# Altium footprint library MyLib.PcbLib: 10 footprints
Each footprint in its own frame and in the unit in brackets; x right, y up, seen from the top. Pads: shape width x height; smd on the part's side, far side on the other; paste and mask are expansions set on the pad; w line width, h text height; cw(c..) or ccw(c..) is an arc to the next point about the centre after c.
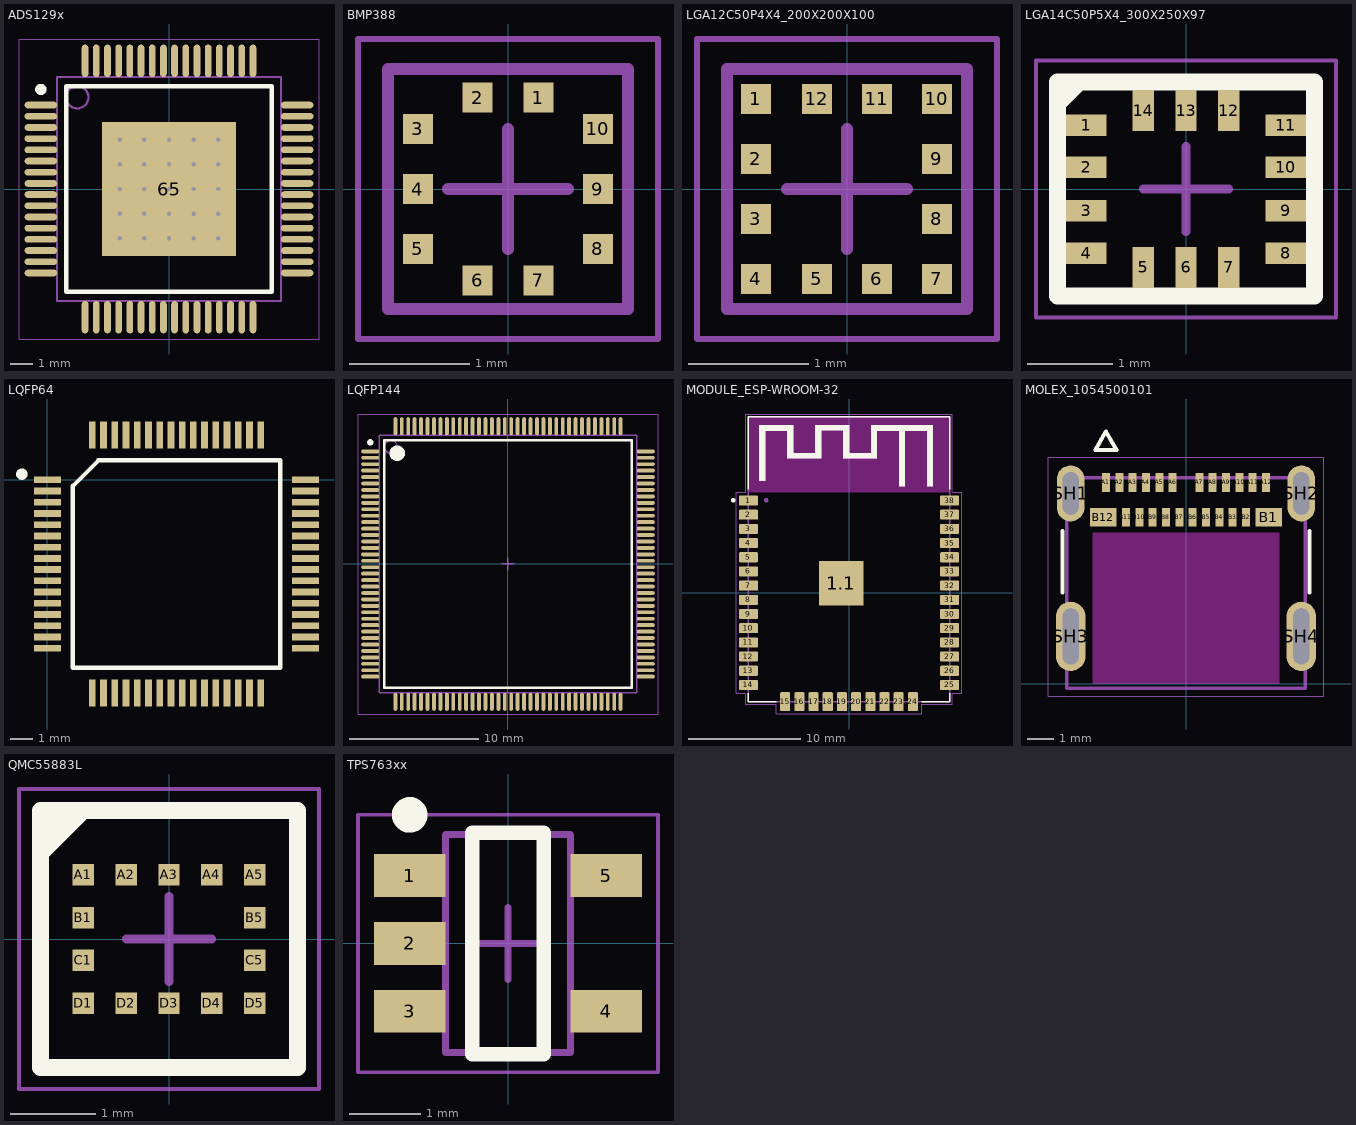
[diagram p0: the footprints below, top view; thin cyan lines are the x and y axes]

## ADS129x [mm] "TSQFP, 64-Leads, Body 10.00x10.00mm, Pitch 0.50mm, Thermal Pad 6.00x6.00mm, IPC Medium Density"
height 1.2
pads (65):
  oval 1.45x0.3 smd: 1(-5.725,3.75) 2(-5.725,3.25) 3(-5.725,2.75) 4(-5.725,2.25) 5(-5.725,1.75) 6(-5.725,1.25) 7(-5.725,0.75) 8(-5.725,0.25) 9(-5.725,-0.25) 10(-5.725,-0.75) 11(-5.725,-1.25) 12(-5.725,-1.75) 13(-5.725,-2.25) 14(-5.725,-2.75) 15(-5.725,-3.25) 16(-5.725,-3.75) 33(5.725,-3.75) 34(5.725,-3.25) 35(5.725,-2.75) 36(5.725,-2.25) 37(5.725,-1.75) 38(5.725,-1.25) 39(5.725,-0.75) 40(5.725,-0.25) 41(5.725,0.25) 42(5.725,0.75) 43(5.725,1.25) 44(5.725,1.75) 45(5.725,2.25) 46(5.725,2.75) 47(5.725,3.25) 48(5.725,3.75)
  oval 0.3x1.45 smd: 17(-3.75,-5.725) 18(-3.25,-5.725) 19(-2.75,-5.725) 20(-2.25,-5.725) 21(-1.75,-5.725) 22(-1.25,-5.725) 23(-0.75,-5.725) 24(-0.25,-5.725) 25(0.25,-5.725) 26(0.75,-5.725) 27(1.25,-5.725) 28(1.75,-5.725) 29(2.25,-5.725) 30(2.75,-5.725) 31(3.25,-5.725) 32(3.75,-5.725) 49(3.75,5.725) 50(3.25,5.725) 51(2.75,5.725) 52(2.25,5.725) 53(1.75,5.725) 54(1.25,5.725) 55(0.75,5.725) 56(0.25,5.725) 57(-0.25,5.725) 58(-0.75,5.725) 59(-1.25,5.725) 60(-1.75,5.725) 61(-2.25,5.725) 62(-2.75,5.725) 63(-3.25,5.725) 64(-3.75,5.725)
  rect 6x6 smd: 65(0,0)
via -2.2,2.2 diameter 0.5 hole 0.2
via -1.1,2.2 diameter 0.5 hole 0.2
via 0,2.2 diameter 0.5 hole 0.2
via 1.1,2.2 diameter 0.5 hole 0.2
via 2.2,2.2 diameter 0.5 hole 0.2
via -2.2,1.1 diameter 0.5 hole 0.2
via -1.1,1.1 diameter 0.5 hole 0.2
via 0,1.1 diameter 0.5 hole 0.2
via 1.1,1.1 diameter 0.5 hole 0.2
via 2.2,1.1 diameter 0.5 hole 0.2
via -2.2,0 diameter 0.5 hole 0.2
via -1.1,0 diameter 0.5 hole 0.2
via 0,0 diameter 0.5 hole 0.2
via 1.1,0 diameter 0.5 hole 0.2
via 2.2,0 diameter 0.5 hole 0.2
via -2.2,-1.1 diameter 0.5 hole 0.2
via -1.1,-1.1 diameter 0.5 hole 0.2
via 0,-1.1 diameter 0.5 hole 0.2
via 1.1,-1.1 diameter 0.5 hole 0.2
via 2.2,-1.1 diameter 0.5 hole 0.2
via -2.2,-2.2 diameter 0.5 hole 0.2
via -1.1,-2.2 diameter 0.5 hole 0.2
via 0,-2.2 diameter 0.5 hole 0.2
via 1.1,-2.2 diameter 0.5 hole 0.2
via 2.2,-2.2 diameter 0.5 hole 0.2
Top Overlay:
  circle w0.25: c-5.725,4.45 r0.125
  lines w0.2: -4.6,-4.6 -4.6,4.6 4.6,4.6 4.6,-4.6 -4.6,-4.6
Mechanical 13:
  circle w0.1: c-4.1,4.1 r0.5
  lines w0.1: -5,-5 -5,5 5,5 5,-5 -5,-5
Mechanical 15:
  lines w0.05: -6.7,-6.7 -6.7,6.7 6.7,6.7 6.7,-6.7 -6.7,-6.7
  lines w0.1: -0.5,0 0.5,0 ; 0,-0.5 0,0.5
3D body "ADS1298--3DModel-STEP-56544.STEP": height 1.16, standoff -0.04, extent -6,-6 6,6

## BMP388 [mm] "LGA, 10-Leads, Body 2.00x2.00mmx0.75mm, Pitch 0.50mm"
height 0.75
pads (10):
  rect 0.25x0.25 smd: 1(0.254,0.762) 2(-0.254,0.762) 3(-0.75,0.5) 4(-0.75,0) 5(-0.75,-0.5) 6(-0.254,-0.762) 7(0.254,-0.762) 8(0.75,-0.5) 9(0.75,0) 10(0.75,0.5)
Mechanical 13:
  lines w0.1: -1,-1 1,-1 1,1 -1,1 -1,-1
Mechanical 15:
  lines w0.05: -1.25,-1.25 -1.25,1.25 1.25,1.25 1.25,-1.25 -1.25,-1.25
  lines w0.1: -0.5,0 0.5,0 ; 0,-0.5 0,0.5
3D body "BMP388--3DModel-STEP-56544.STEP": height 0.81, standoff 0.01, extent -1,-1 1,1

## LGA12C50P4X4_200X200X100 [mm] "LGA, 12-Leads, Body 2.00x2.00mmx1.00mm, Pitch 0.50mm"
height 1
pads (12):
  rect 0.25x0.25 smd: 1(-0.76,0.75) 2(-0.76,0.25) 3(-0.76,-0.25) 4(-0.76,-0.75) 5(-0.25,-0.75) 6(0.25,-0.75) 7(0.75,-0.75) 8(0.75,-0.25) 9(0.75,0.25) 10(0.75,0.75) 11(0.25,0.75) 12(-0.25,0.75)
Mechanical 13:
  lines w0.1: -1,-1 -1,1 1,1 1,-1 -1,-1
Mechanical 15:
  lines w0.05: -1.25,-1.25 -1.25,1.25 1.25,1.25 1.25,-1.25 -1.25,-1.25
  lines w0.1: -0.5,0 0.5,0 ; 0,-0.5 0,0.5
3D body "LIS3MDLTR--3DModel-STEP-56544.STEP": height 1.01, standoff 0.01, extent -1,-1 1,1

## LGA14C50P5X4_300X250X97 [mm] "LGA, 14-Leads, Body 3.00x2.50mmx0.97mm, Pitch 0.50mm"
height 0.97
pads (14):
  rect 0.475x0.25 smd: 1(-1.163,0.742) 2(-1.163,0.254) 3(-1.163,-0.254) 4(-1.163,-0.752) 8(1.163,-0.752) 9(1.163,-0.254) 10(1.163,0.254) 11(1.163,0.742)
  rect 0.25x0.475 smd: 5(-0.5,-0.915) 6(0,-0.915) 7(0.5,-0.915) 12(0.5,0.915) 13(0,0.915) 14(-0.5,0.915)
Top Overlay:
  region: -1.242,1.25 -1.5,0.992 -1.5,1.25
  lines w0.2: -1.5,0.992 -1.242,1.25 ; -1.5,-1.25 1.5,-1.25 1.5,1.25 -1.5,1.25 -1.5,-1.25
Mechanical 13:
  lines w0.1: -1.5,-1.25 1.5,-1.25 1.5,1.25 -1.5,1.25 -1.5,-1.25
Mechanical 15:
  lines w0.05: -1.75,-1.5 1.75,-1.5 1.75,1.5 -1.75,1.5 -1.75,-1.5
  lines w0.1: -0.5,0 0.5,0 ; 0,-0.5 0,0.5
3D body "ICM-42688-P--3DModel-STEP-1.STEP": height 0.98, standoff 0.01, extent -1.5,-1.25 1.5,1.25

## LQFP64 [mm]
pads (64):
  rect 1.2x0.3 smd: 1(0,0) 2(0,-0.5) 3(0,-1) 4(0,-1.5) 5(0,-2) 6(0,-2.5) 7(0,-3) 8(0,-3.5) 9(0,-4) 10(0,-4.5) 11(0,-5) 12(0,-5.5) 13(0,-6) 14(0,-6.5) 15(0,-7) 16(0,-7.5) 33(11.5,-7.5) 34(11.5,-7) 35(11.5,-6.5) 36(11.5,-6) 37(11.5,-5.5) 38(11.5,-5) 39(11.5,-4.5) 40(11.5,-4) 41(11.5,-3.5) 42(11.5,-3) 43(11.5,-2.5) 44(11.5,-2) 45(11.5,-1.5) 46(11.5,-1) 47(11.5,-0.5) 48(11.5,0)
  rect 0.3x1.2 smd: 17(2,-9.5) 18(2.5,-9.5) 19(3,-9.5) 20(3.5,-9.5) 21(4,-9.5) 22(4.5,-9.5) 23(5,-9.5) 24(5.5,-9.5) 25(6,-9.5) 26(6.5,-9.5) 27(7,-9.5) 28(7.5,-9.5) 29(8,-9.5) 30(8.5,-9.5) 31(9,-9.5) 32(9.5,-9.5) 49(9.5,2) 50(9,2) 51(8.5,2) 52(8,2) 53(7.5,2) 54(7,2) 55(6.5,2) 56(6,2) 57(5.5,2) 58(5,2) 59(4.5,2) 60(4,2) 61(3.5,2) 62(3,2) 63(2.5,2) 64(2,2)
Top Overlay:
  circle w0.254: c-1.143,0.254 r0.127
  lines w0.2: 1.135,-8.365 1.135,-0.27 2.27,0.865 10.365,0.865 10.365,-8.365 1.135,-8.365
3D body "STM32F722RET6.STEP": height 1.46, standoff -0.14, extent -0.254,-9.75 11.746,2.25

## LQFP144 [mm] "LQFP, 144-Leads"
height 1.6
pads (144):
  oval 1.4x0.3 smd: 1(-10.7,8.75) 2(-10.7,8.25) 3(-10.7,7.75) 4(-10.7,7.25) 5(-10.7,6.75) 6(-10.7,6.25) 7(-10.7,5.75) 8(-10.7,5.25) 9(-10.7,4.75) 10(-10.7,4.25) 11(-10.7,3.75) 12(-10.7,3.25) 13(-10.7,2.75) 14(-10.7,2.25) 15(-10.7,1.75) 16(-10.7,1.25) 17(-10.7,0.75) 18(-10.7,0.25) 19(-10.7,-0.25) 20(-10.7,-0.75) 21(-10.7,-1.25) 22(-10.7,-1.75) 23(-10.7,-2.25) 24(-10.7,-2.75) 25(-10.7,-3.25) 26(-10.7,-3.75) 27(-10.7,-4.25) 28(-10.7,-4.75) 29(-10.7,-5.25) 30(-10.7,-5.75) 31(-10.7,-6.25) 32(-10.7,-6.75) 33(-10.7,-7.25) 34(-10.7,-7.75) 35(-10.7,-8.25) 36(-10.7,-8.75) 73(10.7,-8.75) 74(10.7,-8.25) 75(10.7,-7.75) 76(10.7,-7.25) 77(10.7,-6.75) 78(10.7,-6.25) 79(10.7,-5.75) 80(10.7,-5.25) 81(10.7,-4.75) 82(10.7,-4.25) 83(10.7,-3.75) 84(10.7,-3.25) 85(10.7,-2.75) 86(10.7,-2.25) 87(10.7,-1.75) 88(10.7,-1.25) 89(10.7,-0.75) 90(10.7,-0.25) 91(10.7,0.25) 92(10.7,0.75) 93(10.7,1.25) 94(10.7,1.75) 95(10.7,2.25) 96(10.7,2.75) 97(10.7,3.25) 98(10.7,3.75) 99(10.7,4.25) 100(10.7,4.75) 101(10.7,5.25) 102(10.7,5.75) 103(10.7,6.25) 104(10.7,6.75) 105(10.7,7.25) 106(10.7,7.75) 107(10.7,8.25) 108(10.7,8.75)
  oval 0.3x1.4 smd: 37(-8.75,-10.7) 38(-8.25,-10.7) 39(-7.75,-10.7) 40(-7.25,-10.7) 41(-6.75,-10.7) 42(-6.25,-10.7) 43(-5.75,-10.7) 44(-5.25,-10.7) 45(-4.75,-10.7) 46(-4.25,-10.7) 47(-3.75,-10.7) 48(-3.25,-10.7) 49(-2.75,-10.7) 50(-2.25,-10.7) 51(-1.75,-10.7) 52(-1.25,-10.7) 53(-0.75,-10.7) 54(-0.25,-10.7) 55(0.25,-10.7) 56(0.75,-10.7) 57(1.25,-10.7) 58(1.75,-10.7) 59(2.25,-10.7) 60(2.75,-10.7) 61(3.25,-10.7) 62(3.75,-10.7) 63(4.25,-10.7) 64(4.75,-10.7) 65(5.25,-10.7) 66(5.75,-10.7) 67(6.25,-10.7) 68(6.75,-10.7) 69(7.25,-10.7) 70(7.75,-10.7) 71(8.25,-10.7) 72(8.75,-10.7) 109(8.75,10.7) 110(8.25,10.7) 111(7.75,10.7) 112(7.25,10.7) 113(6.75,10.7) 114(6.25,10.7) 115(5.75,10.7) 116(5.25,10.7) 117(4.75,10.7) 118(4.25,10.7) 119(3.75,10.7) 120(3.25,10.7) 121(2.75,10.7) 122(2.25,10.7) 123(1.75,10.7) 124(1.25,10.7) 125(0.75,10.7) 126(0.25,10.7) 127(-0.25,10.7) 128(-0.75,10.7) 129(-1.25,10.7) 130(-1.75,10.7) 131(-2.25,10.7) 132(-2.75,10.7) 133(-3.25,10.7) 134(-3.75,10.7) 135(-4.25,10.7) 136(-4.75,10.7) 137(-5.25,10.7) 138(-5.75,10.7) 139(-6.25,10.7) 140(-6.75,10.7) 141(-7.25,10.7) 142(-7.75,10.7) 143(-8.25,10.7) 144(-8.75,10.7)
Top Overlay:
  circle w0.25: c-10.7,9.45 r0.125
  circle w0.6: c-8.6,8.6 r0.3
  lines w0.2: -9.6,-9.6 -9.6,9.6 9.6,9.6 9.6,-9.6 -9.6,-9.6
Mechanical 13:
  circle w0.1: c-9.1,9.1 r0.5
  lines w0.1: -10,-10 -10,10 10,10 10,-10 -10,-10
Mechanical 15:
  lines w0.05: -11.65,-11.65 -11.65,11.65 11.65,11.65 11.65,-11.65 -11.65,-11.65
  lines w0.1: -0.5,0 0.5,0 ; 0,-0.5 0,0.5
3D body "stm32f767zit6.SLDPRT": height 1.48, standoff 0, extent -11.005,-11.078 10.995,10.922

## MODULE_ESP-WROOM-32 [mm]
pads (39):
  rrect22% 1.7x0.9 smd: 1(-9,8.255) 2(-9,6.985) 3(-9,5.715) 4(-9,4.445) 5(-9,3.175) 6(-9,1.905) 7(-9,0.635) 8(-9,-0.635) 9(-9,-1.905) 10(-9,-3.175) 11(-9,-4.445) 12(-9,-5.715) 13(-9,-6.985) 14(-9,-8.255) 25(9,-8.255) 26(9,-6.985) 27(9,-5.715) 28(9,-4.445) 29(9,-3.175) 30(9,-1.905) 31(9,-0.635) 32(9,0.635) 33(9,1.905) 34(9,3.175) 35(9,4.445) 36(9,5.715) 37(9,6.985) 38(9,8.255)
  rect 4x4 smd: 1.1(-0.7,0.845)
  rrect22% 0.9x1.7 smd: 15(-5.715,-9.755) 16(-4.445,-9.755) 17(-3.175,-9.755) 18(-1.905,-9.755) 19(-0.635,-9.755) 20(0.635,-9.755) 21(1.905,-9.755) 22(3.175,-9.755) 23(4.445,-9.755) 24(5.715,-9.755)
Top Overlay:
  circle w0.2: c-10.365,8.275 r0.1
  region: -7.5,10.529 -8.022,10.529 -8.022,15 -7.5,15
  region: -5,14.516 -8.009,14.516 -8.009,15 -5,15
  region: -5,12.047 -5.522,12.047 -5.522,14.5 -5,14.5
  region: -2.5,12.018 -5.508,12.018 -5.508,12.5 -2.5,12.5
  region: -2.5,12.041 -3.01,12.041 -3.01,14.5 -2.5,14.5
  region: 0,14.549 -3.01,14.549 -3.01,15 0,15
  region: 0,12.049 -0.502,12.049 -0.502,14.5 0,14.5
  region: 2.5,12.05 -0.502,12.05 -0.502,12.5 2.5,12.5
  region: 2.5,12.053 2.009,12.053 2.009,14.5 2.5,14.5
  region: 7.5,14.514 2.012,14.514 2.012,15 7.5,15
  region: 7.5,10.03 7.021,10.03 7.021,15 7.5,15
  region: 5,10.031 4.514,10.031 4.514,15 5,15
  region: 7.5,9.526 7.019,9.526 7.019,10 7.5,10
  region: 5,9.517 4.508,9.517 4.508,10 5,10
  region: -7.5,10.025 -8.02,10.025 -8.02,10.5 -7.5,10.5
  region: 2.5,13.554 2.008,13.554 2.008,15 2.5,15
  lines w0.127: -9,-9 -9,-9.75 -6.5,-9.75 ; -9,9.25 -9,15.75 9,15.75 9,9.25 ; 6.5,-9.75 9,-9.75 9,-9
Keep-Out Layer:
  region: 9,9.012 -9.012,9.012 -9.012,15.75 9,15.75
  region: 9,9.026 -9.026,9.026 -9.026,15.75 9,15.75
Mechanical 13:
  circle w0.2: c-7.425,8.275 r0.1
  region: -7.5,10.55 -8.038,10.55 -8.038,15 -7.5,15
  region: -5,14.574 -8.041,14.574 -8.041,15 -5,15
  region: -5,12.04 -5.518,12.04 -5.518,14.5 -5,14.5
  region: -2.5,12.034 -5.516,12.034 -5.516,12.5 -2.5,12.5
  region: -2.5,12.041 -3.01,12.041 -3.01,14.5 -2.5,14.5
  region: 0,14.531 -3.006,14.531 -3.006,15 0,15
  region: 0,12.04 -0.502,12.04 -0.502,14.5 0,14.5
  region: 2.5,12.012 -0.501,12.012 -0.501,12.5 2.5,12.5
  region: 2.5,12.046 2.008,12.046 2.008,14.5 2.5,14.5
  region: 7.5,14.541 2.015,14.541 2.015,15 7.5,15
  region: 7.5,10.037 7.026,10.037 7.026,15 7.5,15
  region: 5,10.033 4.515,10.033 4.515,15 5,15
  region: 7.5,9.529 7.022,9.529 7.022,10 7.5,10
  region: 5,9.548 4.523,9.548 4.523,10 5,10
  region: -7.5,10.033 -8.027,10.033 -8.027,10.5 -7.5,10.5
  region: 2.5,13.551 2.008,13.551 2.008,15 2.5,15
  lines w0.127: -9,-9.755 9,-9.755 9,15.745 -9,15.745 -9,-9.755
Mechanical 15:
  lines w0.05: -10.1,-9 -9.25,-9 -9.25,-10 -6.5,-10 -6.5,-10.855 6.5,-10.855 6.5,-10 9.25,-10 9.25,-9 10.1,-9 10.1,9 9.25,9 9.25,16 -9.25,16 -9.25,9 -10.1,9 -10.1,-9
3D body "step_temp.STEP": height 3.25, standoff 0, extent -9,-9.75 9,15.75

## MOLEX_1054500101 [mm]
height 3.24
pads (28):
  rect 0.298x0.7 smd mask+0.064: A1(-3,7.54) A2(-2.5,7.54) A3(-2,7.54) A4(-1.5,7.54) A5(-1,7.54) A6(-0.5,7.54) A7(0.5,7.54) A8(1,7.54) A9(1.5,7.54) A10(2,7.54) A11(2.5,7.54) A12(3,7.54) B2(2.25,6.24) B3(1.75,6.24) B4(1.25,6.24) B5(0.75,6.24) B6(0.25,6.24) B7(-0.25,6.24) B8(-0.75,6.24) B9(-1.25,6.24) B10(-1.75,6.24) B11(-2.25,6.24)
  rect 0.998x0.7 smd mask+0.064: B1(3.1,6.24) B12(-3.1,6.24)
  oval 1.036x2.1 hole 0.6 slot 1.6 at 90 deg mask+0.064: SH1(-4.32,7.13) SH2(4.32,7.13)
  oval 1.1x2.6 hole 0.6 slot 2.1 at 90 deg mask+0.064: SH3(-4.32,1.77) SH4(4.32,1.77)
Top Overlay:
  lines w0.15: -4.62,3.42 -4.62,5.72 ; 4.62,3.42 4.62,5.72 ; -3.4,8.748 -3,9.448 -2.6,8.748 -3.4,8.748
Keep-Out Layer:
  region: 3.5,0 -3.5,0 -3.5,5.65 3.5,5.65
Mechanical 13:
  lines w0.13: -4.47,-0.18 -4.47,7.72 4.47,7.72 4.47,0 4.47,-0.18 -4.47,-0.18 ; -3.4,8.748 -3,9.448 -2.6,8.748 -3.4,8.748
Mechanical 15:
  lines w0.01: -5.17,-0.48 -5.17,8.48 5.17,8.48 5.17,-0.48 -5.17,-0.48

## QMC55883L [mm] "LGA, 16-Leads, Body 3.00x3.00mmx1.02mm, Pitch 0.50mm"
height 1.02
pads (14):
  rect 0.25x0.25 smd: A1(-1,0.75) A2(-0.5,0.75) A3(0,0.75) A4(0.5,0.75) A5(1,0.75) B1(-1,0.25) B5(1,0.25) C1(-1,-0.25) C5(1,-0.25) D1(-1,-0.75) D2(-0.5,-0.75) D3(0,-0.75) D4(0.5,-0.75) D5(1,-0.75)
Top Overlay:
  region: -1,1.5 -1.5,1 -1.5,1.5
  lines w0.2: -1.5,1 -1,1.5 ; -1.5,-1.5 -1.5,1.5 1.5,1.5 1.5,-1.5 -1.5,-1.5
Mechanical 13:
  lines w0.1: -1.5,-1.5 -1.5,1.5 1.5,1.5 1.5,-1.5 -1.5,-1.5
Mechanical 15:
  lines w0.05: -1.75,-1.75 -1.75,1.75 1.75,1.75 1.75,-1.75 -1.75,-1.75
  lines w0.1: -0.5,0 0.5,0 ; 0,-0.5 0,0.5
3D body: height 1.02, standoff 0.21, extent -1.5,-1.5 1.5,1.5

## TPS763xx [mm] "SOT23, 5-Leads, Body 2.90x2.80mm, Pitch 0.95mm, IPC Medium Density"
height 1.45
pads (5):
  rect 1x0.6 smd: 1(-1.375,0.95) 2(-1.375,0) 3(-1.375,-0.95) 4(1.375,-0.95) 5(1.375,0.95)
Top Overlay:
  circle w0.25: c-1.375,1.8 r0.125
  lines w0.2: -0.5,-1.55 -0.5,1.55 0.5,1.55 0.5,-1.55 -0.5,-1.55
Mechanical 13:
  lines w0.1: -0.875,-1.525 0.875,-1.525 0.875,1.525 -0.875,1.525 -0.875,-1.525
Mechanical 15:
  lines w0.05: -2.1,-1.8 2.1,-1.8 2.1,1.8 -2.1,1.8 -2.1,-1.8
  lines w0.1: -0.5,0 0.5,0 ; 0,-0.5 0,0.5
3D body "TPS76333DBVR.STEP": height 1.31, standoff -0.14, extent -1.4,-1.45 1.4,1.45